# Altium footprint library idl-fixed_new.PCBLIB: 92 footprints (part 3 of 6)
Each footprint in its own frame and in the unit in brackets; x right, y up, seen from the top. Pads: shape width x height; smd on the part's side, far side on the other; paste and mask are expansions set on the pad; w line width, h text height; cw(c..) or ccw(c..) is an arc to the next point about the centre after c.
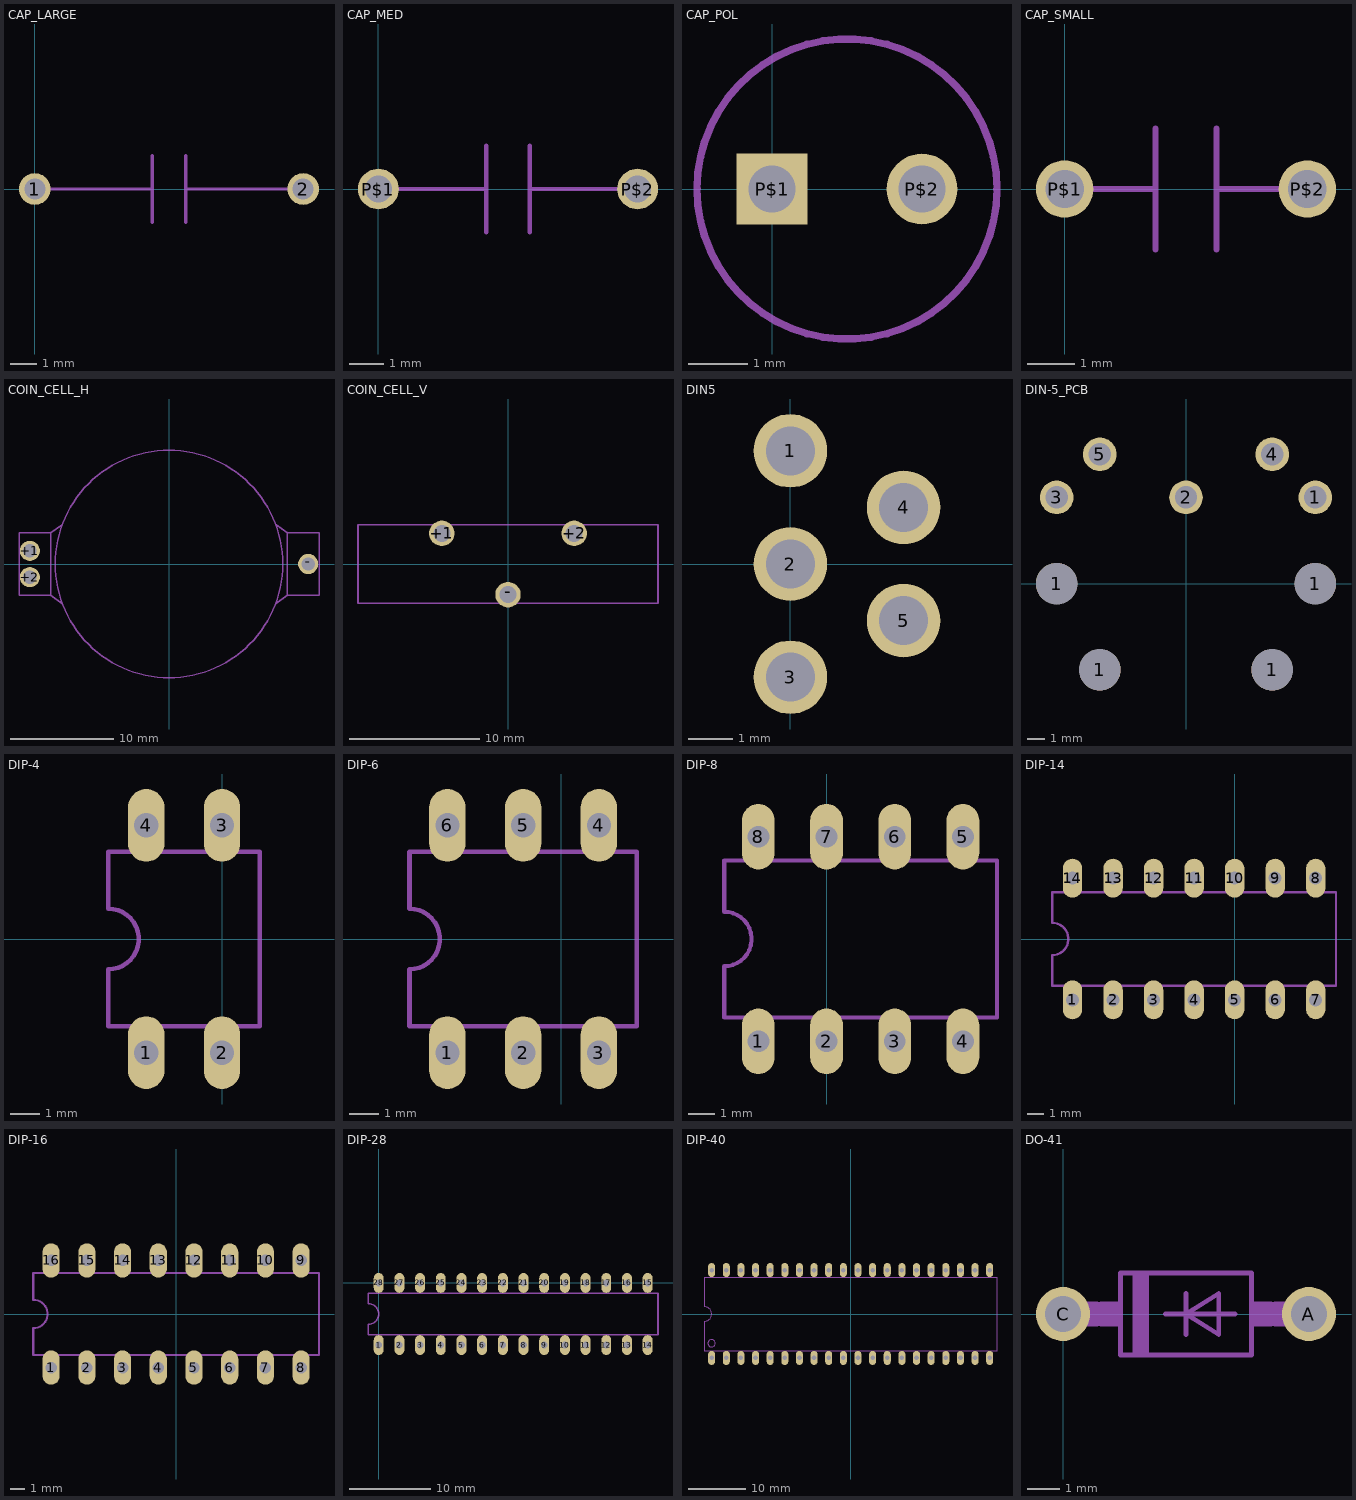
[diagram p2: the footprints below, top view; thin cyan lines are the x and y axes]

## CAP_LARGE [mil]
pads (2):
  round 47.25 hole 31.5: 1(0,0) 2(400,0)
Mechanical 2:
  lines w5: 0,0 175,0 ; 175,-50 175,0 ; 175,50 175,0 ; 225,-50 225,0 ; 225,50 225,0 ; 400,0 225,0

## CAP_MED [mil]
pads (2):
  round 47.25 hole 31.5: P$1(0,0) P$2(300,0)
Mechanical 2:
  lines w5: 0,0 125,0 ; 125,-50 125,50 ; 175,-50 175,50 ; 175,0 300,0

## CAP_POL [mil]
pads (2):
  rect 47.25x47.25 hole 31.5: P$1(0,0)
  round 47.25 hole 31.5: P$2(100,0)
Mechanical 2:
  circle w5: c50,0 r100

## CAP_SMALL [mil]
pads (2):
  round 47.25 hole 31.5: P$1(0,0) P$2(200,0)
Mechanical 2:
  lines w5: 0,0 75,0 ; 75,-50 75,0 ; 75,50 75,0 ; 125,-50 125,0 ; 125,50 125,0 ; 200,0 125,0

## COIN_CELL_H [mil]
pads (3):
  round 76.77 hole 51.18: +1(-529.53,50) +2(-529.53,-50) -(529.53,0)
Mechanical 2:
  circle w5: c0,0 r433.07
  lines w5: -406.41,150 -450,118.11 ; -405.84,-151.2 -450,-118.11 ; 406.02,-150.73 450,-118.11 ; 407.42,148.81 450,118.11 ; -450,-118.11 -570.87,-118.11 -570.87,118.11 -450,118.11 ; -450,-118.11 -450,118.11 ; 450,-118.11 570.87,-118.11 570.87,118.11 450,118.11 ; 450,-118.11 450,118.11

## COIN_CELL_V [mm]
pads (3):
  round 1.95 hole 1.3: +1(-5.075,2.35) +2(5.075,2.35) -(0,-2.35)
Mechanical 2:
  lines w0.127: -11.5,-3 11.5,-3 11.5,3 -11.5,3 -11.5,-3

## DIN5 [mil]
pads (5):
  round 64.97 hole 43.31: 1(0,100) 2(0,0) 3(0,-100) 4(100,50) 5(100,-50)

## DIN-5_PCB [mm]
pads (9):
  round 2.4 hole 2.4: 1(-7.5,0) 1(-5,-5) 1(5,-5) 1(7.5,0)
  round 1.95 hole 1.3: 1(7.5,5) 2(0,5) 3(-7.5,5) 4(5,7.5) 5(-5,7.5)

## DIP-4 [mil]
pads (4):
  oval 48x96 hole 32: 1(-100,-150) 2(0,-150) 3(0,150) 4(-100,150)
Mechanical 2:
  lines w6: -150,-115 50,-115 50,115 -150,115 -150,40 cw(c-150,0) -150,-40 -150,-115

## DIP-6 [mil]
pads (6):
  oval 48x96 hole 32: 1(-150,-150) 2(-50,-150) 3(50,-150) 4(50,150) 5(-50,150) 6(-150,150)
Mechanical 2:
  lines w6: -200,-115 100,-115 100,115 -200,115 -200,40 cw(c-200,0) -200,-40 -200,-115

## DIP-8 [mil]
pads (8):
  oval 48x96 hole 32: 1(-100,100) 2(0,100) 3(100,100) 4(200,100) 5(200,400) 6(100,400) 7(0,400) 8(-100,400)
Mechanical 2:
  lines w6: -150,135 250,135 250,365 -150,365 -150,290 cw(c-150,250) -150,210 -150,135

## DIP-14 [mil]
pads (14):
  oval 48x96 hole 32: 1(-400,-150) 2(-300,-150) 3(-200,-150) 4(-100,-150) 5(0,-150) 6(100,-150) 7(200,-150) 8(200,150) 9(100,150) 10(0,150) 11(-100,150) 12(-200,150) 13(-300,150) 14(-400,150)
Mechanical 2:
  lines w6: -450,-115 250,-115 250,115 -450,115 -450,40 cw(c-450,0) -450,-40 -450,-115

## DIP-16 [mil]
pads (16):
  oval 48x96 hole 32: 1(-350,-150) 2(-250,-150) 3(-150,-150) 4(-50,-150) 5(50,-150) 6(150,-150) 7(250,-150) 8(350,-150) 9(350,150) 10(250,150) 11(150,150) 12(50,150) 13(-50,150) 14(-150,150) 15(-250,150) 16(-350,150)
Mechanical 2:
  lines w6: -400,-115 400,-115 400,115 -400,115 -400,40 cw(c-400,0) -400,-40 -400,-115

## DIP-28 [mil]
pads (28):
  oval 48x96 hole 32: 1(0,-300) 2(100,-300) 3(200,-300) 4(300,-300) 5(400,-300) 6(500,-300) 7(600,-300) 8(700,-300) 9(800,-300) 10(900,-300) 11(1000,-300) 12(1100,-300) 13(1200,-300) 14(1300,-300) 15(1300,0) 16(1200,0) 17(1100,0) 18(1000,0) 19(900,0) 20(800,0) 21(700,0) 22(600,0) 23(500,0) 24(400,0) 25(300,0) 26(200,0) 27(100,0) 28(0,0)
Mechanical 2:
  lines w8: -50,-250 -50,-200 ccw(c-50,-150) -50,-100 -50,-50 1350,-50 1350,-250 -50,-250

## DIP-40 [mil]
pads (40):
  oval 48x96 hole 32: 1(-950,-300) 2(-850,-300) 3(-750,-300) 4(-650,-300) 5(-550,-300) 6(-450,-300) 7(-350,-300) 8(-250,-300) 9(-150,-300) 10(-50,-300) 11(50,-300) 12(150,-300) 13(250,-300) 14(350,-300) 15(450,-300) 16(550,-300) 17(650,-300) 18(750,-300) 19(850,-300) 20(950,-300) 21(950,300) 22(850,300) 23(750,300) 24(650,300) 25(550,300) 26(450,300) 27(350,300) 28(250,300) 29(150,300) 30(50,300) 31(-50,300) 32(-150,300) 33(-250,300) 34(-350,300) 35(-450,300) 36(-550,300) 37(-650,300) 38(-750,300) 39(-850,300) 40(-950,300)
Mechanical 2:
  circle w5: c-950,-200 r25
  lines w8: -1000,-250 -1000,-50 ccw(c-1000,0) -1000,50 -1000,250 1000,250 1000,-250 -1000,-250

## DO-41 [mil]
pads (2):
  round 66 hole 44: A(300,0) C(0,0)
Mechanical 2:
  rectangle: 85,-50 105,50
  rectangle: 230,-15 255,15
  rectangle: 45,-15 70,15
  lines w6: 125,0 150,0 ; 150,-25 150,0 ; 150,25 150,0 ; 210,0 150,0 ; 150,0 190,-25 190,25 150,0 ; 70,-50 230,-50 230,50 70,50 70,-50
Mechanical 18:
  lines w30: 0,0 40,0 ; 260,0 300,0